# Altium footprint library lib-Switches_pcb.PcbLib: 1 footprints
Each footprint in its own frame and in the unit in brackets; x right, y up, seen from the top. Pads: shape width x height; smd on the part's side, far side on the other; paste and mask are expansions set on the pad; w line width, h text height; cw(c..) or ccw(c..) is an arc to the next point about the centre after c.
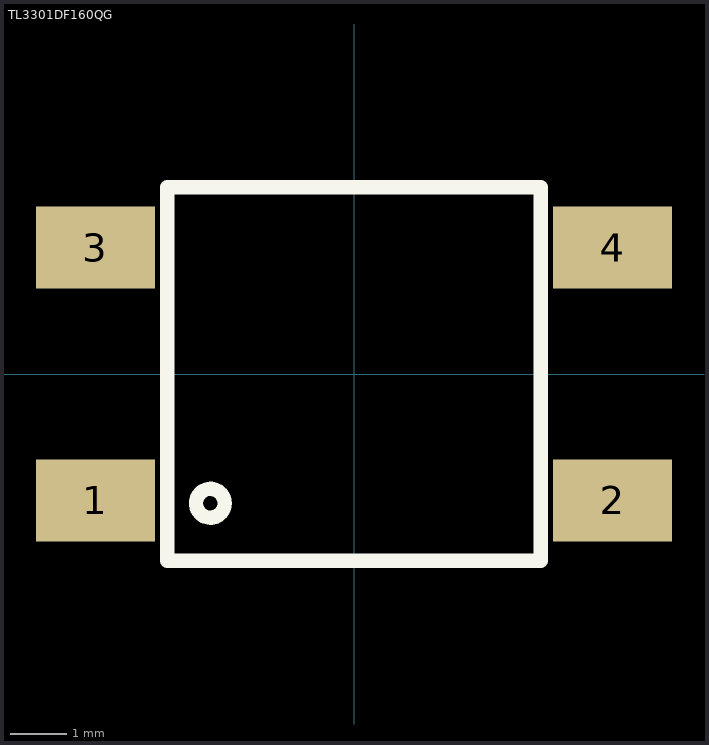
[diagram p0: the footprint, top view; thin cyan lines are the x and y axes]

## TL3301DF160QG [mil] "e-switch TL3301DF160QG"
pads (4):
  rect 83x57 smd: 1(-180,-88) 2(180,-88) 3(-180,88) 4(180,88)
Top Overlay:
  circle w10: c-100,-90 r10
  lines w10: -130,-130 -130,130 130,130 130,-130 -130,-130
3D body: height 142, standoff 0, extent -130,-130 130,130
3D body: height 512, standoff 0, extent -69,-69 69,69